# Altium footprint library 214450577.PcbLib: 1 footprints
Each footprint in its own frame and in the unit in brackets; x right, y up, seen from the top. Pads: shape width x height; smd on the part's side, far side on the other; paste and mask are expansions set on the pad; w line width, h text height; cw(c..) or ccw(c..) is an arc to the next point about the centre after c.
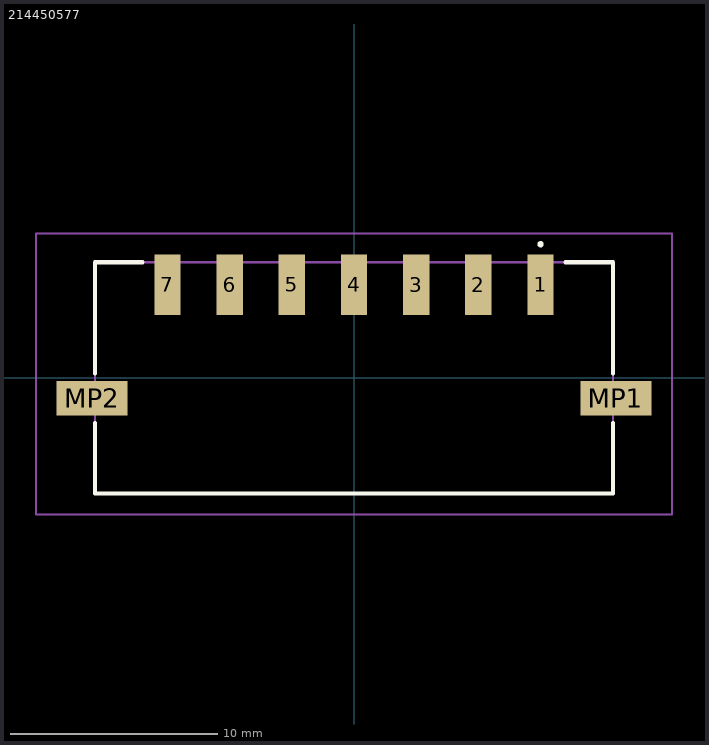
[diagram p0: the footprint, top view; thin cyan lines are the x and y axes]

## 214450577 [mm]
pads (9):
  rect 1.27x2.92 smd: 1(9,4.5) 2(6,4.5) 3(3,4.5) 4(0,4.5) 5(-3,4.5) 6(-6,4.5) 7(-9,4.5)
  rect 3.43x1.65 smd: MP1(12.635,-0.98) MP2(-12.635,-0.98)
Top Overlay:
  lines w0.2: -12.5,-2.18 -12.5,-5.58 12.5,-5.58 12.5,-2.18 ; -12.5,0.22 -12.5,5.58 -10.2,5.58 ; 10.2,5.58 12.5,5.58 12.5,0.22 ; 9,6.4 cw(c9,6.45) 9,6.5 ; 9,6.4 9,6.4 ; 9,6.4 ccw(c9,6.45) 9,6.5 ; 9,6.4 cw(c9,6.45) 9,6.5 ; 9,6.5 9,6.5 ; 9,6.5 9,6.5
Mechanical 15:
  lines w0.1: -12.5,-5.58 12.5,-5.58 12.5,5.58 -12.5,5.58 -12.5,-5.58
Mechanical 20:
  lines w0.1: -15.35,-6.58 15.35,-6.58 15.35,6.96 -15.35,6.96 -15.35,-6.58